# Altium footprint library Rnd IP Camera.PcbLib: 19 footprints (part 2 of 2)
Each footprint in its own frame and in the unit in brackets; x right, y up, seen from the top. Pads: shape width x height; smd on the part's side, far side on the other; paste and mask are expansions set on the pad; w line width, h text height; cw(c..) or ccw(c..) is an arc to the next point about the centre after c.
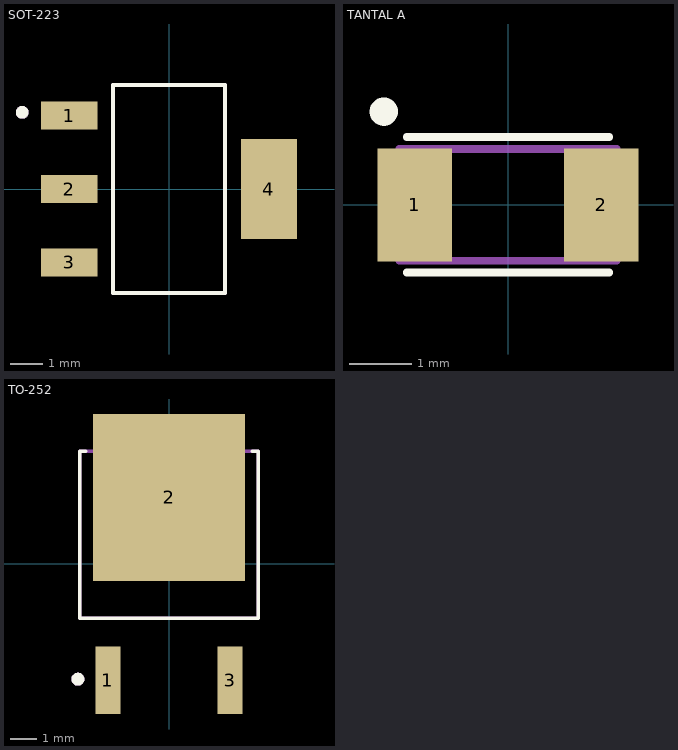
[diagram p1: the footprints below, top view; thin cyan lines are the x and y axes]

## SOT-223 [mm]
pads (4):
  rect 1.76x0.88 smd: 1(-3.125,2.3) 2(-3.125,0) 3(-3.125,-2.3)
  rect 1.76x3.14 smd: 4(3.125,0)
Top Overlay:
  circle w0.2: c-4.6,2.4 r0.1
  lines w0.127: -1.75,-3.25 1.75,-3.25 1.75,3.25 -1.75,3.25 -1.75,-3.25
Mechanical 13:
  circle w0.2: c-4.6,2.4 r0.1
  lines w0.127: -1.75,-3.25 -1.75,3.25 1.75,3.25 1.75,-3.25 -1.75,-3.25
3D body "CircuitWorks-SOT-223.STEP": height 1.7, standoff 0.02, extent -3.48,-3.25 3.48,3.25

## TANTAL A [mm]
pads (2):
  rect 1.2x1.82 smd: 1(-1.505,0) 2(1.505,0)
Top Overlay:
  circle w0.254: c-2,1.5 r0.1
  lines w0.127: -1.63,-1.09 1.63,-1.09 ; -1.63,1.09 1.63,1.09
Mechanical 13:
  lines w0.127: -1.75,-0.9 -1.75,0.9 1.75,0.9 1.75,-0.9 -1.75,-0.9
3D body "T499A225K006ATE6K5.STEP": height 1.8, standoff 0, extent -1.6,-0.8 1.6,0.8

## TO-252 [mm]
pads (3):
  rect 0.94x2.52 smd: 1(-2.28,-4.34) 3(2.28,-4.34)
  rect 5.67x6.23 smd paste-4: 2(0,2.48)
Top Overlay:
  circle w0.24: c-3.4,-4.3 r0.12
  lines w0.127: -3.1,4.2 -3.33,4.2 -3.33,-2.02 3.33,-2.02 3.33,4.2 3.1,4.2
Top Paste:
  region: -1.235,-0.35 -2.545,-0.35 -2.545,1.15 -1.235,1.15
  region: 2.545,-0.35 1.235,-0.35 1.235,1.15 2.545,1.15
  region: -1.235,1.73 -2.545,1.73 -2.545,3.23 -1.235,3.23
  region: 2.545,1.73 1.235,1.73 1.235,3.23 2.545,3.23
  region: 2.545,3.81 1.235,3.81 1.235,5.31 2.545,5.31
  region: -1.235,3.81 -2.545,3.81 -2.545,5.31 -1.235,5.31
  region: 0.655,-0.35 -0.655,-0.35 -0.655,1.15 0.655,1.15
  region: 0.655,3.81 -0.655,3.81 -0.655,5.31 0.655,5.31
  region: 0.655,1.73 -0.655,1.73 -0.655,3.23 0.655,3.23
Mechanical 13:
  circle w0.24: c-3.4,-4.3 r0.12
  lines w0.127: -3.33,-2.02 -3.33,4.2 3.33,4.2 3.33,-2.02 -3.33,-2.02
3D body "IPD50P04P4L-11--3DModel-STEP-56544.STEP": height 2.55, standoff 0.05, extent -3.25,-5.033 3.25,4.947